# Altium integrated library Celestial Library.IntLib: 439 symbols (part 8 of 20)

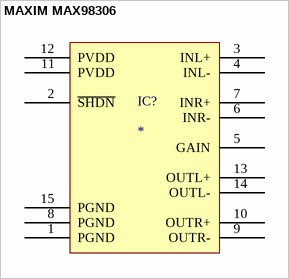
[diagram p161: symbol MAXIM MAX98306]

## MAXIM MAX98306
designator IC?
pins: 1 PGND, 2 ~{SHDN}, 3 INL+, 4 INL-, 5 GAIN, 6 INR-, 7 INR+, 8 PGND, 9 OUTR-, 10 OUTR+, 11 PVDD, 12 PVDD, 13 OUTL+, 14 OUTL-, 15 PGND


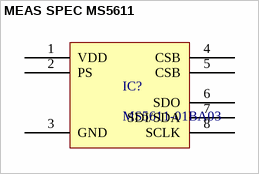
[diagram p162: symbol MEAS SPEC MS5611]

## MEAS SPEC MS5611
designator IC?, comment MS5611-01BA03
pins: 1 VDD "Positive supply voltage", 2 PS "Protocol select - PS high I2C, PS low SPI", 3 GND "Ground", 4 CSB "Chip select", 5 CSB "Chip select", 6 SDO "Serial data output", 7 SDI/SDA "Serial Data input/I2C data IO", 8 SCLK "Serial Data Clock"


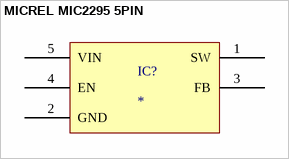
[diagram p163: symbol MICREL MIC2295 5PIN]

## MICREL MIC2295 5PIN
designator IC?
pins: 1 SW, 2 GND, 3 FB, 4 EN, 5 VIN


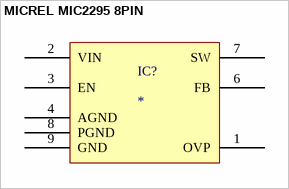
[diagram p164: symbol MICREL MIC2295 8PIN]

## MICREL MIC2295 8PIN
designator IC?
pins: 1 OVP, 2 VIN, 3 EN, 4 AGND, 6 FB, 7 SW, 8 PGND, 9 GND


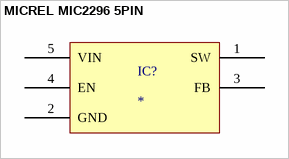
[diagram p165: symbol MICREL MIC2296 5PIN]

## MICREL MIC2296 5PIN
designator IC?
pins: 1 SW, 2 GND, 3 FB, 4 EN, 5 VIN


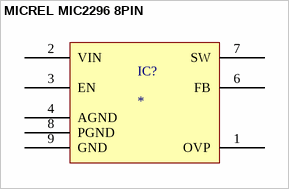
[diagram p166: symbol MICREL MIC2296 8PIN]

## MICREL MIC2296 8PIN
designator IC?
pins: 1 OVP, 2 VIN, 3 EN, 4 AGND, 6 FB, 7 SW, 8 PGND, 9 GND


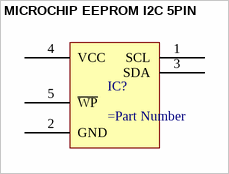
[diagram p167: symbol MICROCHIP EEPROM I2C 5PIN]

## MICROCHIP EEPROM I2C 5PIN
designator IC?
pins: 1 SCL, 2 GND, 3 SDA, 4 VCC, 5 ~{WP}


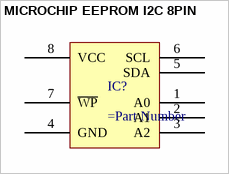
[diagram p168: symbol MICROCHIP EEPROM I2C 8PIN]

## MICROCHIP EEPROM I2C 8PIN
designator IC?
pins: 1 A0, 2 A1, 3 A2, 4 GND, 5 SDA, 6 SCL, 7 ~{WP}, 8 VCC


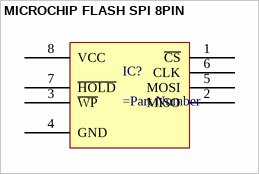
[diagram p169: symbol MICROCHIP FLASH SPI 8PIN]

## MICROCHIP FLASH SPI 8PIN
designator IC?
pins: 1 ~{CS}, 2 MISO, 3 ~{WP}, 4 GND, 5 MOSI, 6 CLK, 7 ~{HOLD}, 8 VCC


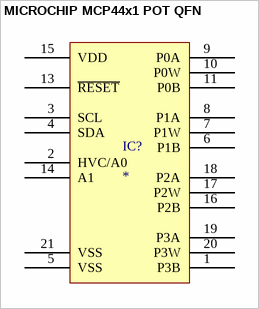
[diagram p170: symbol MICROCHIP MCP44x1 POT QFN]

## MICROCHIP MCP44x1 POT QFN
designator IC?
pins: 1 P3B, 2 HVC/A0, 3 SCL, 4 SDA, 5 VSS, 6 P1B, 7 P1W, 8 P1A, 9 P0A, 10 P0W, 11 P0B, 13 ~{RESET}, 14 A1, 15 VDD, 16 P2B, 17 P2W, 18 P2A, 19 P3A, 20 P3W, 21 VSS


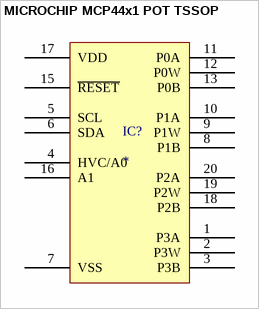
[diagram p171: symbol MICROCHIP MCP44x1 POT TSSOP]

## MICROCHIP MCP44x1 POT TSSOP
designator IC?
pins: 1 P3A, 2 P3W, 3 P3B, 4 HVC/A0, 5 SCL, 6 SDA, 7 VSS, 8 P1B, 9 P1W, 10 P1A, 11 P0A, 12 P0W, 13 P0B, 15 ~{RESET}, 16 A1, 17 VDD, 18 P2B, 19 P2W, 20 P2A


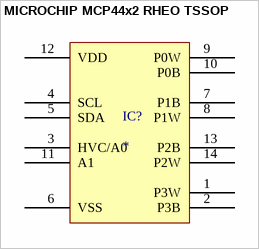
[diagram p172: symbol MICROCHIP MCP44x2 RHEO TSSOP]

## MICROCHIP MCP44x2 RHEO TSSOP
designator IC?
pins: 1 P3W, 2 P3B, 3 HVC/A0, 4 SCL, 5 SDA, 6 VSS, 7 P1B, 8 P1W, 9 P0W, 10 P0B, 11 A1, 12 VDD, 13 P2B, 14 P2W


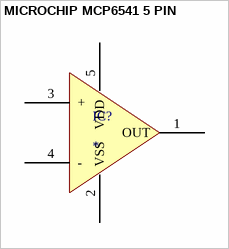
[diagram p173: symbol MICROCHIP MCP6541 5 PIN]

## MICROCHIP MCP6541 5 PIN
designator IC?
pins: 1 OUT, 2 VSS (power), 3 +, 4 -, 5 VDD (power)


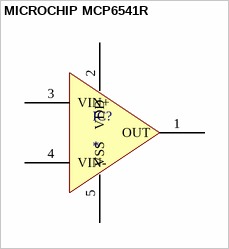
[diagram p174: symbol MICROCHIP MCP6541R]

## MICROCHIP MCP6541R
designator IC?
pins: 1 OUT, 2 VDD (power), 3 VIN+, 4 VIN-, 5 VSS (power)


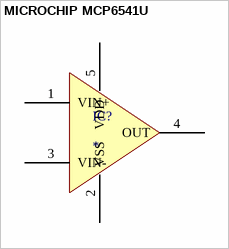
[diagram p175: symbol MICROCHIP MCP6541U]

## MICROCHIP MCP6541U
designator IC?
pins: 1 VIN+, 2 VSS (power), 3 VIN-, 4 OUT, 5 VDD (power)


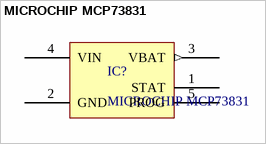
[diagram p176: symbol MICROCHIP MCP73831]

## MICROCHIP MCP73831
designator IC?
Miniature Single-Cell, Fully integrated Li-Ion, Li-Polymer charge management controllers
pins: 1 STAT, 2 GND, 3 VBAT (out), 4 VIN, 5 PROG


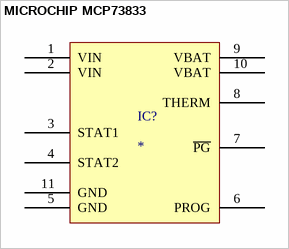
[diagram p177: symbol MICROCHIP MCP73833]

## MICROCHIP MCP73833
designator IC?
pins: 1 VIN, 2 VIN, 3 STAT1, 4 STAT2, 5 GND, 6 PROG, 7 ~{PG}, 8 THERM, 9 VBAT, 10 VBAT, 11 GND


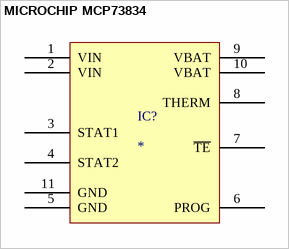
[diagram p178: symbol MICROCHIP MCP73834]

## MICROCHIP MCP73834
designator IC?
pins: 1 VIN, 2 VIN, 3 STAT1, 4 STAT2, 5 GND, 6 PROG, 7 ~{TE}, 8 THERM, 9 VBAT, 10 VBAT, 11 GND


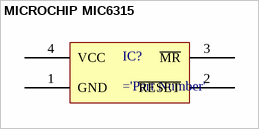
[diagram p179: symbol MICROCHIP MIC6315]

## MICROCHIP MIC6315
designator IC?
pins: 1 GND, 2 ~{RESET}, 3 ~{MR}, 4 VCC


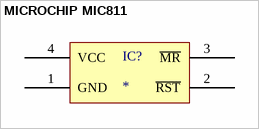
[diagram p180: symbol MICROCHIP MIC811]

## MICROCHIP MIC811
designator IC?
pins: 1 GND, 2 ~{RST}, 3 ~{MR}, 4 VCC


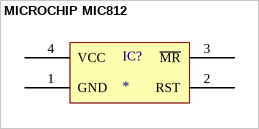
[diagram p181: symbol MICROCHIP MIC812]

## MICROCHIP MIC812
designator IC?
pins: 1 GND, 2 RST, 3 ~{MR}, 4 VCC


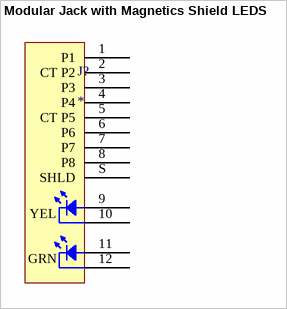
[diagram p182: symbol Modular Jack with Magnetics Shield LEDS]

## Modular Jack with Magnetics Shield LEDS
designator J?
pins: 1 P1, 2 CT P2, 3 P3, 4 P4, 5 CT P5, 6 P6, 7 P7, 8 P8, 9 P9, 10 P10, 11 P11, 12 P12, S SHLD
text: YEL; GRN


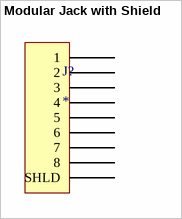
[diagram p183: symbol Modular Jack with Shield]

## Modular Jack with Shield
designator J?
pins: 1, 2, 3, 4, 5, 6, 7, 8, S SHLD
